# Altium footprint library Winbond.PcbLib: 18 footprints (part 2 of 2)
Each footprint in its own frame and in the unit in brackets; x right, y up, seen from the top. Pads: shape width x height; smd on the part's side, far side on the other; paste and mask are expansions set on the pad; w line width, h text height; cw(c..) or ccw(c..) is an arc to the next point about the centre after c.
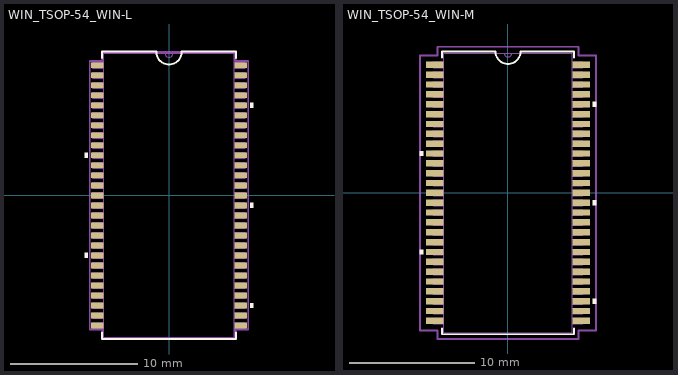
[diagram p1: the footprints below, top view; thin cyan lines are the x and y axes]

## WIN_TSOP-54_WIN-L [mil]
pads (54):
  rect 39x18 smd: 1(-222,403) 2(-222,372) 3(-222,341) 4(-222,310) 5(-222,279) 6(-222,248) 7(-222,217) 8(-222,186) 9(-222,155) 10(-222,124) 11(-222,93) 12(-222,62) 13(-222,31) 14(-222,0) 15(-222,-31) 16(-222,-62) 17(-222,-93) 18(-222,-124) 19(-222,-155) 20(-222,-186) 21(-222,-217) 22(-222,-248) 23(-222,-279) 24(-222,-310) 25(-222,-341) 26(-222,-372) 27(-222,-403) 28(222,-403) 29(222,-372) 30(222,-341) 31(222,-310) 32(222,-279) 33(222,-248) 34(222,-217) 35(222,-186) 36(222,-155) 37(222,-124) 38(222,-93) 39(222,-62) 40(222,-31) 41(222,0) 42(222,31) 43(222,62) 44(222,93) 45(222,124) 46(222,155) 47(222,186) 48(222,217) 49(222,248) 50(222,279) 51(222,310) 52(222,341) 53(222,372) 54(222,403)
Top Overlay:
  region: 251.5,286.5 261.5,286.5 261.5,271.5 251.5,271.5
  region: 251.5,-23.5 261.5,-23.5 261.5,-38.5 251.5,-38.5
  region: 251.5,-333.5 261.5,-333.5 261.5,-348.5 251.5,-348.5
  region: -251.5,-178.5 -261.5,-178.5 -261.5,-193.5 -251.5,-193.5
  region: -251.5,131.5 -261.5,131.5 -261.5,116.5 -251.5,116.5
  lines w6: -207.5,-425.1 -207.5,-445 207.5,-445 207.5,-425.1 ; -207.5,425.1 -207.5,445 -39.37,445 ccw(c0,445) 39.37,445 207.5,445 207.5,425.1
Mechanical 13:
  drawing of 221 lines, arcs and shapes, not listed
Mechanical 15:
  lines w6: -245.5,-416 -206.5,-416 -206.5,-444 206.5,-444 206.5,-416 245.5,-416 245.5,416 206.5,416 206.5,444 -206.5,444 -206.5,416 -245.5,416 -245.5,-416
3D body "WIN_TSOP-54_WIN.step": height 47.09, standoff 0, extent -235.51,-440 235.51,440

## WIN_TSOP-54_WIN-M [mil]
pads (54):
  rect 55x20 smd: 1(-230,403) 2(-230,372) 3(-230,341) 4(-230,310) 5(-230,279) 6(-230,248) 7(-230,217) 8(-230,186) 9(-230,155) 10(-230,124) 11(-230,93) 12(-230,62) 13(-230,31) 14(-230,0) 15(-230,-31) 16(-230,-62) 17(-230,-93) 18(-230,-124) 19(-230,-155) 20(-230,-186) 21(-230,-217) 22(-230,-248) 23(-230,-279) 24(-230,-310) 25(-230,-341) 26(-230,-372) 27(-230,-403) 28(230,-403) 29(230,-372) 30(230,-341) 31(230,-310) 32(230,-279) 33(230,-248) 34(230,-217) 35(230,-186) 36(230,-155) 37(230,-124) 38(230,-93) 39(230,-62) 40(230,-31) 41(230,0) 42(230,31) 43(230,62) 44(230,93) 45(230,124) 46(230,155) 47(230,186) 48(230,217) 49(230,248) 50(230,279) 51(230,310) 52(230,341) 53(230,372) 54(230,403)
Top Overlay:
  region: 267.5,286.5 277.5,286.5 277.5,271.5 267.5,271.5
  region: 267.5,-23.5 277.5,-23.5 277.5,-38.5 267.5,-38.5
  region: 267.5,-333.5 277.5,-333.5 277.5,-348.5 267.5,-348.5
  region: -267.5,-178.5 -277.5,-178.5 -277.5,-193.5 -267.5,-193.5
  region: -267.5,131.5 -277.5,131.5 -277.5,116.5 -267.5,116.5
  lines w6: -207.5,-426.1 -207.5,-445 207.5,-445 207.5,-426.1 ; -207.5,426.1 -207.5,445 -39.37,445 ccw(c0,445) 39.37,445 207.5,445 207.5,426.1
Mechanical 13:
  drawing of 221 lines, arcs and shapes, not listed
Mechanical 15:
  lines w6: -277.5,-433 -222.5,-433 -222.5,-460 222.5,-460 222.5,-433 277.5,-433 277.5,433 222.5,433 222.5,460 -222.5,460 -222.5,433 -277.5,433 -277.5,-433
3D body "WIN_TSOP-54_WIN.step": height 47.09, standoff 0, extent -235.51,-440 235.51,440